# Altium footprint library LFBGA$100N0.80P10X10_10.0X10.0X1.7-100_100.PcbLib: 1 footprints
Each footprint in its own frame and in the unit in brackets; x right, y up, seen from the top. Pads: shape width x height; smd on the part's side, far side on the other; paste and mask are expansions set on the pad; w line width, h text height; cw(c..) or ccw(c..) is an arc to the next point about the centre after c.
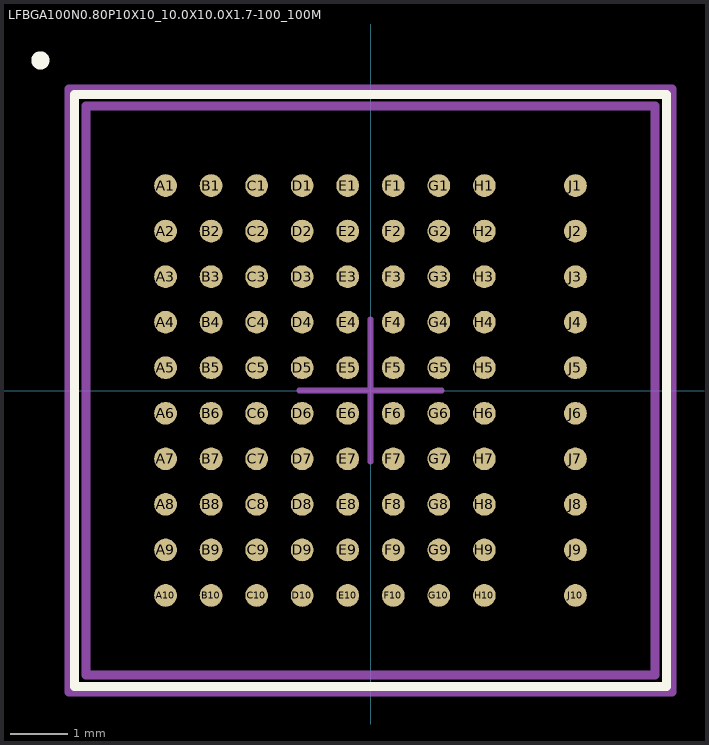
[diagram p0: the footprint, top view; thin cyan lines are the x and y axes]

## LFBGA100N0.80P10X10_10.0X10.0X1.7-100_100M [mm] "LFBGA 100 10x10x1.7 P 0.8 mm"
height 1.7
pads (90):
  round 0.4 smd: A1(-3.6,3.6) A2(-3.6,2.8) A3(-3.6,2) A4(-3.6,1.2) A5(-3.6,0.4) A6(-3.6,-0.4) A7(-3.6,-1.2) A8(-3.6,-2) A9(-3.6,-2.8) A10(-3.6,-3.6) B1(-2.8,3.6) B2(-2.8,2.8) B3(-2.8,2) B4(-2.8,1.2) B5(-2.8,0.4) B6(-2.8,-0.4) B7(-2.8,-1.2) B8(-2.8,-2) B9(-2.8,-2.8) B10(-2.8,-3.6) C1(-2,3.6) C2(-2,2.8) C3(-2,2) C4(-2,1.2) C5(-2,0.4) C6(-2,-0.4) C7(-2,-1.2) C8(-2,-2) C9(-2,-2.8) C10(-2,-3.6) D1(-1.2,3.6) D2(-1.2,2.8) D3(-1.2,2) D4(-1.2,1.2) D5(-1.2,0.4) D6(-1.2,-0.4) D7(-1.2,-1.2) D8(-1.2,-2) D9(-1.2,-2.8) D10(-1.2,-3.6) E1(-0.4,3.6) E2(-0.4,2.8) E3(-0.4,2) E4(-0.4,1.2) E5(-0.4,0.4) E6(-0.4,-0.4) E7(-0.4,-1.2) E8(-0.4,-2) E9(-0.4,-2.8) E10(-0.4,-3.6) F1(0.4,3.6) F2(0.4,2.8) F3(0.4,2) F4(0.4,1.2) F5(0.4,0.4) F6(0.4,-0.4) F7(0.4,-1.2) F8(0.4,-2) F9(0.4,-2.8) F10(0.4,-3.6) G1(1.2,3.6) G2(1.2,2.8) G3(1.2,2) G4(1.2,1.2) G5(1.2,0.4) G6(1.2,-0.4) G7(1.2,-1.2) G8(1.2,-2) G9(1.2,-2.8) G10(1.2,-3.6) H1(2,3.6) H2(2,2.8) H3(2,2) H4(2,1.2) H5(2,0.4) H6(2,-0.4) H7(2,-1.2) H8(2,-2) H9(2,-2.8) H10(2,-3.6) J1(3.6,3.6) J2(3.6,2.8) J3(3.6,2) J4(3.6,1.2) J5(3.6,0.4) J6(3.6,-0.4) J7(3.6,-1.2) J8(3.6,-2) J9(3.6,-2.8) J10(3.6,-3.6)
Top Overlay:
  circle w0.16: c-5.8,5.8 r0.08
  lines w0.16: -5.2,-5.2 5.2,-5.2 5.2,5.2 -5.2,5.2 -5.2,-5.2
Top Component Center:
  lines w0.1: -1.25,0 1.25,0 ; 0,-1.25 0,1.25
Top Courtyard:
  lines w0.16: -5.3,-5.3 5.3,-5.3 5.3,5.3 -5.3,5.3 -5.3,-5.3
Top Assembly:
  lines w0.16: -5,-5 5,-5 5,5 -5,5 -5,-5
3D body "LFBGA100N0.80P10X10_10.0X10.0X1.7-100_100M.STEP": height 1.7, standoff 0, extent -5,-5 5,5